# EAGLE library part TS5A21366DCUR (library U-TI-TS5A21366-2xSPST-analog-switch)
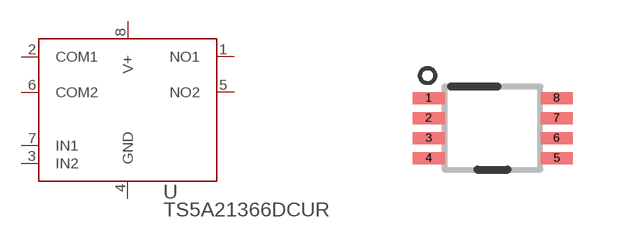
[diagram p0: symbol with the pads of DCU0008A_N; footprint DCU0008A_N]

Designator prefix U

## TS5A21366DCUR (COPYRIGHT: Copyright (C) 2021 Ultra Librarian. All rights reserved.; DIGI-KEY_PART_NUMBER_1: 296-24304-1-ND; DIGI-KEY_PART_NUMBER_2: 296-24304-2-ND; DIGI-KEY_PART_NUMBER_3: 296-24304-6-ND; DIGI-KEY_PART_NUMBER_4: 2156-TS5A21366DCUR-ND; MANUFACTURER_PART_NUMBER: TS5A21366DCUR; MFR_NAME: Texas Instruments; REFDES: RefDes; TYPE: TYPE)  [DCU0008A_N]
1  NO1
2  COM1
3  IN2  in
4  GND  pwr
5  NO2
6  COM2
7  IN1  in
8  V+  pwr

## Footprint DCU0008A_N (pad centres in mm)
smd 0.8 x 0.3: 1 -1.6,0.75; 2 -1.6,0.25; 3 -1.6,-0.25; 4 -1.6,-0.75; 5 1.6,-0.75; 6 1.6,-0.25; 7 1.6,0.25; 8 1.6,0.75